# EAGLE library part 2624-1304 (library con-wago_2624)
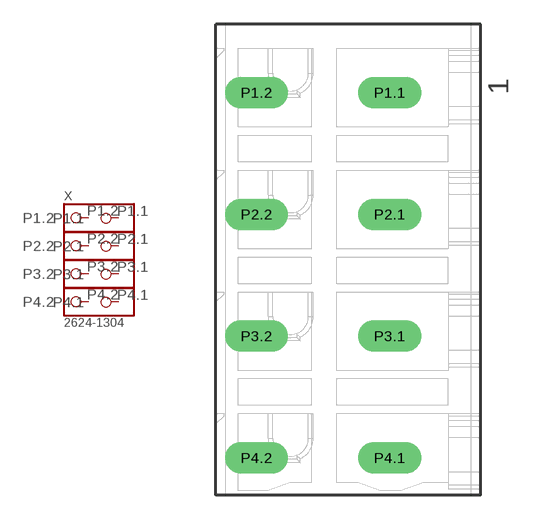
[diagram p11: symbol with the pads of P-2624-1304; footprint P-2624-1304]

Designator prefix X

## 2624-1304  [P-2624-1304]
P1.1  P1.1
P1.2  P1.2
P2.1  P2.1
P2.2  P2.2
P3.1  P3.1
P3.2  P3.2
P4.1  P4.1
P4.2  P4.2

## Footprint P-2624-1304 (pad centres in mm)
drill 1.3 pad 1.93 long: P1.1 0,-2.7; P1.2 -8.2,-2.7; P2.1 0,-10.2; P2.2 -8.2,-10.2; P3.1 0,-17.7; P3.2 -8.2,-17.7; P4.1 0,-25.2; P4.2 -8.2,-25.2